# Altium schematic symbol library CONN - Headers, Male Pins.SchLib: 7 symbols
Pins are listed as number, name and electrical type; pins without a type are passive.

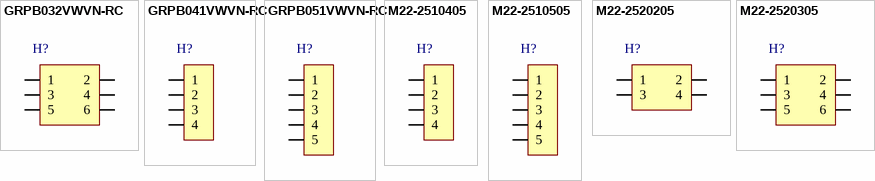
[diagram p0: symbols GRPB032VWVN-RC to M22-2520305]

## GRPB032VWVN-RC
designator H?  (value not drawn)
CONN HEADER .050" 6POS DL PCB AU; Manufacturer: Sullins Connector Solutions; Pitch - Mating: 0.050" (1.27mm); Style: Board to Board or Cable; Shrouding: Unshrouded; Number of Positions: 6; Number of Positions Loaded: All; Contact Length - Mating: 0.118" (3.00mm); Contact Length - Post: 0.091" (2.30mm); Overall Contact Length: 0.248" (6.30mm); Material Flammability Rating: UL94 V-0; Current Rating: 1A; Supplier 1: Digi-Key; Supplier Part Number 1: S9015E-03-ND; Manufacturer Part Number: GRPB032VWVN-RC; RoHS: RoHS Compliant; Category: Connectors, Interconnects; Stock 1: 14221; Pricing 1: 1=0.63, 10=0.49, 25=0.4564, 50=0.415, 100=0.3735, 250=0.3154, 500=0.2988, 1000=0.2656, 2500=0.22078 (USD); Packaging: Bulk; Part Status: Active; Connector Type: Header; Contact Type: Male Pin; Number of Rows: 2; Row Spacing - Mating: 0.050" (1.27mm); Mounting Type: Through Hole; Termination: Solder; Fastening Type: -; Insulation Height: 0.039" (1.00mm); Contact Shape: Square; Contact Finish - Mating: Gold; Contact Finish Thickness - Mating: Flash; Contact Finish - Post: Gold; Contact Material: Brass; Insulation Material: Polyamide (PA9T), Nylon 9T; Features: -; Operating Temperature: -40°C ~ 105°C; Ingress Protection: -; Insulation Color: -; Voltage Rating: -; Mated Stacking Heights: -; Contact Finish Thickness - Post: Flash; Applications: -; ComponentLink1URL: http://media.digikey.com/pdf/Data%20Sheets/Sullins%20PDFs/GRPB_%20_2VWVN-RC%2010954-C.pdf; ComponentLink1Description: http://media.digikey.com/pdf/Data%20Sheets/Sullins%20PDFs/GRPB_%20_2VWVN-RC%2010954-C.pdf
footprint HDR/3/2/MALE/50
pins: 1, 2, 3, 4, 5, 6

## GRPB041VWVN-RC
designator H?  (value not drawn)
CONN HEADER .050" 4POS PCB GOLD; Manufacturer: Sullins Connector Solutions; Pitch - Mating: 0.050" (1.27mm); Style: Board to Board or Cable; Shrouding: Unshrouded; Number of Positions: 4; Number of Positions Loaded: All; Contact Length - Mating: 0.118" (3.00mm); Contact Length - Post: 0.091" (2.30mm); Overall Contact Length: 0.248" (6.30mm); Material Flammability Rating: UL94 V-0; Current Rating: 1A; Supplier 1: Digi-Key; Supplier Part Number 1: S9014E-04-ND; Manufacturer Part Number: GRPB041VWVN-RC; RoHS: RoHS Compliant; Category: Connectors, Interconnects; Stock 1: 29276; Pricing 1: 1=0.56, 10=0.389, 25=0.3332, 50=0.2998, 100=0.2609, 250=0.222, 500=0.2109, 1000=0.1887, 2500=0.14985 (USD); Packaging: Bulk; Part Status: Active; Connector Type: Header; Contact Type: Male Pin; Number of Rows: 1; Row Spacing - Mating: -; Mounting Type: Through Hole; Termination: Solder; Fastening Type: -; Insulation Height: 0.039" (1.00mm); Contact Shape: Square; Contact Finish - Mating: Gold; Contact Finish Thickness - Mating: Flash; Contact Finish - Post: Gold; Contact Material: Brass; Insulation Material: Polyamide (PA9T), Nylon 9T; Features: -; Operating Temperature: -40°C ~ 105°C; Ingress Protection: -; Insulation Color: -; Voltage Rating: -; Mated Stacking Heights: -; Contact Finish Thickness - Post: Flash; Applications: -; ComponentLink1URL: http://www.sullinscorp.com/drawings/71_GRPB___1VWVN-RC,_10957-C.pdf; ComponentLink1Description: http://www.sullinscorp.com/drawings/71_GRPB___1VWVN-RC,_10957-C.pdf
footprint HDR/4x1/MALE/50
pins: 1, 2, 3, 4

## GRPB051VWVN-RC
designator H?  (value not drawn)
CONN HEADER .050" 5POS PCB GOLD; Manufacturer: Sullins Connector Solutions; Pitch - Mating: 0.050" (1.27mm); Style: Board to Board or Cable; Shrouding: Unshrouded; Number of Positions: 5; Number of Positions Loaded: All; Contact Length - Mating: 0.118" (3.00mm); Contact Length - Post: 0.091" (2.30mm); Overall Contact Length: 0.248" (6.30mm); Material Flammability Rating: UL94 V-0; Current Rating: 1A; Supplier 1: Digi-Key; Supplier Part Number 1: S9014E-05-ND; Manufacturer Part Number: GRPB051VWVN-RC; RoHS: RoHS Compliant; Category: Connectors, Interconnects; Stock 1: 17300; Pricing 1: 1=0.52, 10=0.407, 25=0.3796, 50=0.345, 100=0.3105, 250=0.2622, 500=0.2484, 1000=0.2208, 2500=0.18354 (USD); Packaging: Bulk; Part Status: Active; Connector Type: Header; Contact Type: Male Pin; Number of Rows: 1; Row Spacing - Mating: -; Mounting Type: Through Hole; Termination: Solder; Fastening Type: -; Insulation Height: 0.039" (1.00mm); Contact Shape: Square; Contact Finish - Mating: Gold; Contact Finish Thickness - Mating: Flash; Contact Finish - Post: Gold; Contact Material: Brass; Insulation Material: Polyamide (PA9T), Nylon 9T; Features: -; Operating Temperature: -40°C ~ 105°C; Ingress Protection: -; Insulation Color: -; Voltage Rating: -; Mated Stacking Heights: -; Contact Finish Thickness - Post: Flash; Applications: -; ComponentLink1URL: http://www.sullinscorp.com/drawings/71_GRPB___1VWVN-RC,_10957-C.pdf; ComponentLink1Description: http://www.sullinscorp.com/drawings/71_GRPB___1VWVN-RC,_10957-C.pdf
footprint HDR/5x1/MALE/50
pins: 1, 2, 3, 4, 5

## M22-2510405
designator H?  (value not drawn)
CONN HEADER 2MM VERT AU 4POS; Manufacturer: Harwin Inc.; Connector Type: Header, Cuttable; Pitch - Mating: 0.079" (2.00mm); Style: Board to Board; Shrouding: Unshrouded; Number of Positions: 4; Number of Positions Loaded: All; Contact Length - Mating: 0.138" (3.50mm); Contact Length - Post: 0.091" (2.30mm); Overall Contact Length: 0.287" (7.30mm); Material Flammability Rating: UL94 V-0; Current Rating: 1A per Contact; Mated Stacking Heights: 5.9mm, 8.6mm; Supplier 1: Digi-Key; Supplier Part Number 1: 952-1313-ND; Manufacturer Part Number: M22-2510405; RoHS: RoHS Compliant; Category: Connectors, Interconnects; Stock 1: 16900; Pricing 1: 1=0.29, 10=0.273, 100=0.1911, 500=0.1638, 1000=0.1365, 5000=0.117, 10000=0.1092 (USD); Packaging: Bulk; Part Status: Active; Contact Type: Male Pin; Number of Rows: 1; Row Spacing - Mating: -; Mounting Type: Through Hole; Termination: Solder; Fastening Type: -; Insulation Height: 0.060" (1.50mm); Contact Shape: Square; Contact Finish - Mating: Gold; Contact Finish Thickness - Mating: -; Contact Finish - Post: -; Contact Material: Phosphor Bronze; Insulation Material: Polyamide (PA6T), Nylon 6T; Features: -; Operating Temperature: -40°C ~ 105°C; Ingress Protection: -; Insulation Color: Black; Voltage Rating: -; Contact Finish Thickness - Post: -; Applications: -; ComponentLink1URL: https://cdn.harwin.com/pdfs/M22-251.pdf; ComponentLink1Description: https://cdn.harwin.com/pdfs/M22-251.pdf
footprint HDR/4x1/MALE/2.0
pins: 1, 2, 3, 4

## M22-2510505
designator H?  (value not drawn)
CONN HEADER 2MM VERT AU 5POS; Manufacturer: Harwin Inc.; Connector Type: Header, Cuttable; Pitch - Mating: 0.079" (2.00mm); Style: Board to Board; Shrouding: Unshrouded; Number of Positions: 5; Number of Positions Loaded: All; Contact Length - Mating: 0.138" (3.50mm); Contact Length - Post: 0.091" (2.30mm); Overall Contact Length: 0.287" (7.30mm); Material Flammability Rating: UL94 V-0; Current Rating: 1A per Contact; Mated Stacking Heights: 5.9mm, 8.6mm; Supplier 1: Digi-Key; Supplier Part Number 1: 952-1314-ND; Manufacturer Part Number: M22-2510505; RoHS: RoHS Compliant; Category: Connectors, Interconnects; Stock 1: 3876; Pricing 1: 1=0.36, 10=0.336, 100=0.2352, 500=0.2016, 1000=0.168, 5000=0.144, 10000=0.1344 (USD); Packaging: Bulk; Part Status: Active; Contact Type: Male Pin; Number of Rows: 1; Row Spacing - Mating: -; Mounting Type: Through Hole; Termination: Solder; Fastening Type: -; Insulation Height: 0.060" (1.50mm); Contact Shape: Square; Contact Finish - Mating: Gold; Contact Finish Thickness - Mating: -; Contact Finish - Post: -; Contact Material: Phosphor Bronze; Insulation Material: Polyamide (PA6T), Nylon 6T; Features: -; Operating Temperature: -40°C ~ 105°C; Ingress Protection: -; Insulation Color: Black; Voltage Rating: -; Contact Finish Thickness - Post: -; Applications: -; ComponentLink1URL: https://cdn.harwin.com/pdfs/M22-251.pdf; ComponentLink1Description: https://cdn.harwin.com/pdfs/M22-251.pdf
footprint HDR/5x1/MALE/2.0
pins: 1, 2, 3, 4, 5

## M22-2520205
designator H?  (value not drawn)
CONN HEADER 2MM VERT AU 4POS; Manufacturer: Harwin Inc.; Connector Type: Header, Cuttable; Pitch - Mating: 0.079" (2.00mm); Style: Board to Board; Shrouding: Unshrouded; Number of Positions: 4; Number of Positions Loaded: All; Contact Length - Mating: 0.138" (3.50mm); Contact Length - Post: 0.091" (2.30mm); Overall Contact Length: 0.287" (7.30mm); Material Flammability Rating: UL94 V-0; Current Rating: 1A per Contact; Mated Stacking Heights: 3.8mm, 5.9mm, 8.6mm; Supplier 1: Digi-Key; Supplier Part Number 1: 952-1317-ND; Manufacturer Part Number: M22-2520205; RoHS: RoHS Compliant; Category: Connectors, Interconnects; Stock 1: 4672; Pricing 1: 1=0.34, 10=0.326, 100=0.2279, 500=0.1953, 1000=0.16275, 5000=0.1395, 10000=0.1302 (USD); Packaging: Bulk; Part Status: Active; Contact Type: Male Pin; Number of Rows: 2; Row Spacing - Mating: 0.079" (2.00mm); Mounting Type: Through Hole; Termination: Solder; Fastening Type: -; Insulation Height: 0.060" (1.50mm); Contact Shape: Square; Contact Finish - Mating: Gold; Contact Finish Thickness - Mating: -; Contact Finish - Post: -; Contact Material: Phosphor Bronze; Insulation Material: Polyamide (PA6T), Nylon 6T; Features: -; Operating Temperature: -40°C ~ 105°C; Ingress Protection: -; Insulation Color: Black; Voltage Rating: -; Contact Finish Thickness - Post: -; Applications: -; ComponentLink1URL: https://cdn.harwin.com/pdfs/M22-252.pdf; ComponentLink1Description: https://cdn.harwin.com/pdfs/M22-252.pdf
footprint HDR/2/2/MALE/2.0
pins: 1, 2, 3, 4

## M22-2520305
designator H?  (value not drawn)
CONN HEADER 2MM VERT AU 6POS; Manufacturer: Harwin Inc.; Connector Type: Header, Cuttable; Pitch - Mating: 0.079" (2.00mm); Style: Board to Board; Shrouding: Unshrouded; Number of Positions: 6; Number of Positions Loaded: All; Contact Length - Mating: 0.138" (3.50mm); Contact Length - Post: 0.091" (2.30mm); Overall Contact Length: 0.287" (7.30mm); Material Flammability Rating: UL94 V-0; Current Rating: 1A per Contact; Mated Stacking Heights: 3.8mm, 5.9mm, 8.6mm; Supplier 1: Digi-Key; Supplier Part Number 1: 952-1318-ND; Manufacturer Part Number: M22-2520305; RoHS: RoHS Compliant; Category: Connectors, Interconnects; Stock 1: 6280; Pricing 1: 1=0.43, 10=0.41, 100=0.2867, 500=0.2457, 1000=0.20475, 5000=0.1755, 10000=0.1638 (USD); Packaging: Bulk; Part Status: Active; Contact Type: Male Pin; Number of Rows: 2; Row Spacing - Mating: 0.079" (2.00mm); Mounting Type: Through Hole; Termination: Solder; Fastening Type: -; Insulation Height: 0.060" (1.50mm); Contact Shape: Square; Contact Finish - Mating: Gold; Contact Finish Thickness - Mating: -; Contact Finish - Post: -; Contact Material: Phosphor Bronze; Insulation Material: Polyamide (PA6T), Nylon 6T; Features: -; Operating Temperature: -40°C ~ 105°C; Ingress Protection: -; Insulation Color: Black; Voltage Rating: -; Contact Finish Thickness - Post: -; Applications: -; ComponentLink1URL: https://cdn.harwin.com/pdfs/M22-252.pdf; ComponentLink1Description: https://cdn.harwin.com/pdfs/M22-252.pdf
footprint HDR/3/2/MALE/2.0
pins: 1, 2, 3, 4, 5, 6